# Altium footprint library pcb_library.PcbLib: 18 footprints (part 2 of 2)
Each footprint in its own frame and in the unit in brackets; x right, y up, seen from the top. Pads: shape width x height; smd on the part's side, far side on the other; paste and mask are expansions set on the pad; w line width, h text height; cw(c..) or ccw(c..) is an arc to the next point about the centre after c.
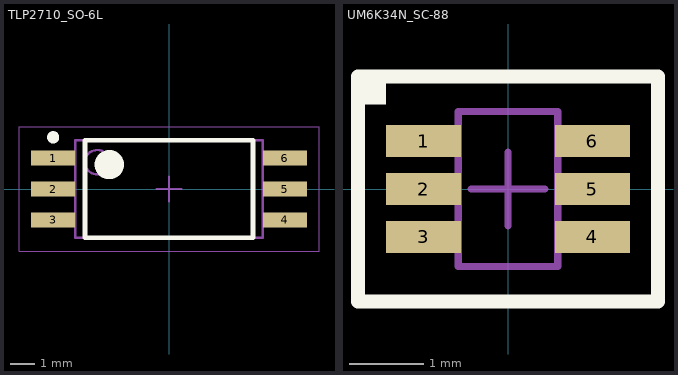
[diagram p1: the footprints below, top view; thin cyan lines are the x and y axes]

## TLP2710_SO-6L [mm] "SOIC, 6-Leads, Body 3.84x7.50mm, Pitch 1.27mm, IPC Low Density"
height 2.2
pads (6):
  rect 1.8x0.6 smd: 1(-4.75,1.27) 2(-4.75,0) 3(-4.75,-1.27) 4(4.75,-1.27) 5(4.75,0) 6(4.75,1.27)
Top Overlay:
  circle w0.25: c-4.75,2.12 r0.125
  circle w0.6: c-2.45,1 r0.3
  lines w0.2: -3.45,-2 -3.45,2 3.45,2 3.45,-2 -3.45,-2
Mechanical 13:
  circle w0.1: c-2.95,1.1 r0.5
  lines w0.1: -3.85,-2 -3.85,2 3.85,2 3.85,-2 -3.85,-2
Mechanical 15:
  lines w0.05: -6.15,-2.55 -6.15,2.55 6.15,2.55 6.15,-2.55 -6.15,-2.55
  lines w0.1: -0.5,0 0.5,0 ; 0,-0.5 0,0.5
3D body "SOIC127P1000X220-6M.step": height 2.2, standoff 0, extent -5,-2 5,2

## UM6K34N_SC-88 [mil] "SOT23, 6-Leads, Body 2.00x2.10mm, Pitch 0.65mm, IPC Low Density"
height 39.37
pads (6):
  rect 40x17 smd: 1(-45,25.59) 2(-45,0) 3(-45,-25.59) 4(45,-25.59) 5(45,0) 6(45,25.59)
Top Overlay:
  rectangle: -80,45 -65,60
  lines w7.5: -80,-60 -80,60 80,60 80,-60 -80,-60
Mechanical 13:
  lines w3.94: -26.57,-41.34 26.57,-41.34 26.57,41.34 -26.57,41.34 -26.57,-41.34
Mechanical 15:
  lines w3.94: -19.68,0 19.69,0 ; 0,-19.68 0,19.69
3D body "SOT65P210X100-6M.step": height 39.37, standoff 0, extent -43.31,-41.34 43.31,41.34